# Altium schematic symbol library ltc2955its8_1_trmpbf.SchLib: 1 symbol
Pins are listed as number, name and electrical type; pins without a type are passive.

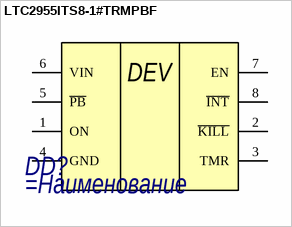
[diagram p0: symbol LTC2955ITS8-1#TRMPBF]

## LTC2955ITS8-1#TRMPBF
designator DD?
=Описание
pins: 1 ON, 2 ~{KILL}, 3 TMR, 4 GND, 5 ~{PB}, 6 VIN, 7 EN, 8 ~{INT}
text: DEV